# Altium footprint library final.PcbLib: 69 footprints (part 5 of 5)
Each footprint in its own frame and in the unit in brackets; x right, y up, seen from the top. Pads: shape width x height; smd on the part's side, far side on the other; paste and mask are expansions set on the pad; w line width, h text height; cw(c..) or ccw(c..) is an arc to the next point about the centre after c.
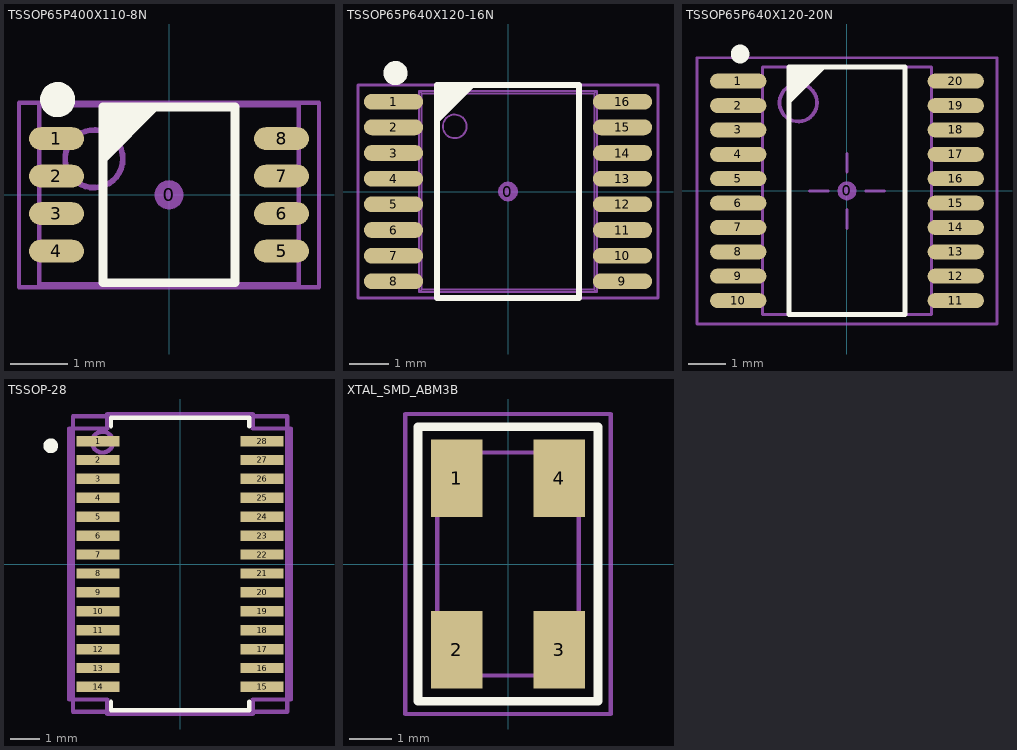
[diagram p4: the footprints below, top view; thin cyan lines are the x and y axes]

## TSSOP65P400X110-8N [mm] "TSSOP, 8 Leads, Body 3.1x3.1mm (max), lead span 4.0mm, Pitch 0.65mm, IPC Medium Density"
height 1.1
pads (9):
  round 0.508 on Mech14 mask+0.05: 0(0,0)
  oval 0.95x0.396 smd paste-0.051 mask+0.05: 1(-1.95,0.975) 2(-1.95,0.325) 3(-1.95,-0.325) 4(-1.95,-0.975) 5(1.95,-0.975) 6(1.95,-0.325) 7(1.95,0.325) 8(1.95,0.975)
Top Overlay:
  circle w0.305: c-1.93,1.651 r0.152
  region: -1.143,1.524 -0.143,1.524 -1.143,0.524
  lines w0.152: -1.143,-1.524 -1.143,1.524 1.143,1.524 1.143,-1.524 -1.143,-1.524
Top Solder:
  region: 2.3,1.016 1.6,1.016 1.6,-1.016 2.3,-1.016
  rectangle: -2.3,-1.016 -1.6,1.016
Mechanical 13:
  circle w0.1: c-1.3,0.625 r0.5
  lines w0.076: -2.25,-1.55 -2.25,1.55 2.25,1.55 2.25,-1.55 -2.25,-1.55
Mechanical 14:
  lines w0.076: -2.6,-1.6 -2.6,1.6 2.6,1.6 2.6,-1.6 -2.6,-1.6
3D body: height 1.09, standoff -0.01, extent -2.05,-1.55 2.05,1.55

## TSSOP65P640X120-16N [mm] "TSSOP, 16 Leads, Body 5.1x4.5mm (max), Pitch 0.65mm, IPC Medium Density"
height 1.2
pads (17):
  round 0.508 on Mech14: 0(0,0)
  oval 1.5x0.4 smd paste-0.051: 1(-2.9,2.275) 2(-2.9,1.625) 3(-2.9,0.975) 4(-2.9,0.325) 5(-2.9,-0.325) 6(-2.9,-0.975) 7(-2.9,-1.625) 8(-2.9,-2.275) 9(2.9,-2.275) 10(2.9,-1.625) 11(2.9,-0.975) 12(2.9,-0.325) 13(2.9,0.325) 14(2.9,0.975) 15(2.9,1.625) 16(2.9,2.275)
Top Overlay:
  circle w0.305: c-2.85,3 r0.152
  region: -1.8,2.7 -0.8,2.7 -1.8,1.7
  lines w0.152: -1.8,-2.7 -1.8,2.7 1.8,2.7 1.8,-2.7 -1.8,-2.7
Top Solder:
  rectangle: -3.5,-2.4 -2.3,2.4
  region: 3.5,2.4 2.3,2.4 2.3,-2.4 3.5,-2.4
Mechanical 13:
  circle w0.05: c-1.35,1.65 r0.3
  lines w0.05: -2.839,-2.425 -2.839,-2.125 ; -2.839,-1.775 -2.839,-1.475 ; -2.839,-1.125 -2.839,-0.825 ; -2.839,-0.475 -2.839,-0.175 ; -2.839,0.175 -2.839,0.475 ; -2.839,0.825 -2.839,1.125 ; -2.839,1.475 -2.839,1.775 ; -2.839,2.125 -2.839,2.425 ; -2.795,-2.425 -2.795,-2.125 ; -2.795,-1.775 -2.795,-1.475 ; -2.795,-1.125 -2.795,-0.825 ; -2.795,-0.475 -2.795,-0.175 ; -2.795,0.175 -2.795,0.475 ; -2.795,0.825 -2.795,1.125 ; -2.795,1.475 -2.795,1.775 ; -2.795,2.125 -2.795,2.425 ; -2.693,-2.425 -2.693,-2.125 ; -2.693,-1.775 -2.693,-1.475 ; -2.693,-1.125 -2.693,-0.825 ; -2.693,-0.475 -2.693,-0.175 ; -2.693,0.175 -2.693,0.475 ; -2.693,0.825 -2.693,1.125 ; -2.693,1.475 -2.693,1.775 ; -2.693,2.125 -2.693,2.425 ; -2.5,-2.425 -2.5,-2.125 ; -2.5,-1.775 -2.5,-1.475 ; -2.5,-1.125 -2.5,-0.825 ; -2.5,-0.475 -2.5,-0.175 ; -2.5,0.175 -2.5,0.475 ; -2.5,0.825 -2.5,1.125 ; -2.5,1.475 -2.5,1.775 ; -2.5,2.125 -2.5,2.425 ; -2.25,-2.425 -3.25,-2.425 -3.25,-2.125 -2.25,-2.125 ; -2.25,-1.775 -3.25,-1.775 -3.25,-1.475 -2.25,-1.475 ; -2.25,-1.125 -3.25,-1.125 -3.25,-0.825 -2.25,-0.825 ; -2.25,-0.475 -3.25,-0.475 -3.25,-0.175 -2.25,-0.175 ; -2.25,0.175 -3.25,0.175 -3.25,0.475 -2.25,0.475 ; -2.25,0.825 -3.25,0.825 -3.25,1.125 -2.25,1.125 ; -2.25,1.475 -3.25,1.475 -3.25,1.775 -2.25,1.775 ; -2.25,2.125 -3.25,2.125 -3.25,2.425 -2.25,2.425 ; 2.25,-2.425 3.25,-2.425 3.25,-2.125 2.25,-2.125 ; 2.25,-1.775 3.25,-1.775 3.25,-1.475 2.25,-1.475 ; 2.25,-1.125 3.25,-1.125 3.25,-0.825 2.25,-0.825 ; 2.25,-0.475 3.25,-0.475 3.25,-0.175 2.25,-0.175 ; 2.25,0.175 3.25,0.175 3.25,0.475 2.25,0.475 ; 2.25,0.825 3.25,0.825 3.25,1.125 2.25,1.125 ; 2.25,1.475 3.25,1.475 3.25,1.775 2.25,1.775 ; 2.25,2.125 3.25,2.125 3.25,2.425 2.25,2.425 ; 2.5,-2.425 2.5,-2.125 ; 2.5,-1.775 2.5,-1.475 ; 2.5,-1.125 2.5,-0.825 ; 2.5,-0.475 2.5,-0.175 ; 2.5,0.175 2.5,0.475 ; 2.5,0.825 2.5,1.125 ; 2.5,1.475 2.5,1.775 ; 2.5,2.125 2.5,2.425 ; 2.693,-2.425 2.693,-2.125 ; 2.693,-1.775 2.693,-1.475 ; 2.693,-1.125 2.693,-0.825 ; 2.693,-0.475 2.693,-0.175 ; 2.693,0.175 2.693,0.475 ; 2.693,0.825 2.693,1.125 ; 2.693,1.475 2.693,1.775 ; 2.693,2.125 2.693,2.425 ; 2.795,-2.425 2.795,-2.125 ; 2.795,-1.775 2.795,-1.475 ; 2.795,-1.125 2.795,-0.825 ; 2.795,-0.475 2.795,-0.175 ; 2.795,0.175 2.795,0.475 ; 2.795,0.825 2.795,1.125 ; 2.795,1.475 2.795,1.775 ; 2.795,2.125 2.795,2.425 ; 2.839,-2.425 2.839,-2.125 ; 2.839,-1.775 2.839,-1.475 ; 2.839,-1.125 2.839,-0.825 ; 2.839,-0.475 2.839,-0.175 ; 2.839,0.175 2.839,0.475 ; 2.839,0.825 2.839,1.125 ; 2.839,1.475 2.839,1.775 ; 2.839,2.125 2.839,2.425 ; -2.25,-2.55 -2.25,2.55 ; -2.25,-2.55 -2.187,-2.487 ; -2.25,-2.55 2.25,-2.55 ; -2.25,2.55 2.25,2.55 ; -2.25,2.55 -2.187,2.487 ; -2.187,-2.487 -2.187,2.487 ; -2.187,-2.487 2.187,-2.487 ; -2.187,2.487 2.187,2.487 ; 2.187,-2.487 2.187,2.487 ; 2.187,-2.487 2.25,-2.55 ; 2.187,2.487 2.25,2.55 ; 2.25,-2.55 2.25,2.55
Mechanical 14:
  lines w0.076: -3.8,-2.7 -3.8,2.7 3.8,2.7 3.8,-2.7 -3.8,-2.7
3D body: height 1.2, standoff 0, extent -3.25,-2.55 3.25,2.55

## TSSOP65P640X120-20N [mm] "TSSOP, 20-Leads, Body 6.6x4.5mm (max), Pitch 0.65mm, IPC Medium Density"
height 1.2
pads (21):
  round 0.508 on Mech14 mask+0.127: 0(0,0)
  oval 1.5x0.4 smd paste-1 mask+0.127: 1(-2.9,2.925) 2(-2.9,2.275) 3(-2.9,1.625) 4(-2.9,0.975) 5(-2.9,0.325) 6(-2.9,-0.325) 7(-2.9,-0.975) 8(-2.9,-1.625) 9(-2.9,-2.275) 10(-2.9,-2.925) 11(2.9,-2.925) 12(2.9,-2.275) 13(2.9,-1.625) 14(2.9,-0.975) 15(2.9,-0.325) 16(2.9,0.325) 17(2.9,0.975) 18(2.9,1.625) 19(2.9,2.275) 20(2.9,2.925)
Top Overlay:
  circle w0.25: c-2.85,3.65 r0.125
  region: -1.55,3.3 -0.55,3.3 -1.55,2.3
  lines w0.127: -1.55,-3.3 -1.55,3.3 1.55,3.3 1.55,-3.3 -1.55,-3.3
Top Paste:
  region: 3.5,-0.825 2.3,-0.825 2.3,-1.125 3.5,-1.125
  region: 3.5,-0.175 2.3,-0.175 2.3,-0.475 3.5,-0.475
  region: 3.5,0.475 2.3,0.475 2.3,0.175 3.5,0.175
  region: 3.5,1.125 2.3,1.125 2.3,0.825 3.5,0.825
  region: 3.5,1.775 2.3,1.775 2.3,1.475 3.5,1.475
  region: 3.5,2.425 2.3,2.425 2.3,2.125 3.5,2.125
  region: 3.5,3.075 2.3,3.075 2.3,2.775 3.5,2.775
  rectangle: -3.5,2.775 -2.3,3.075
  rectangle: -3.5,2.125 -2.3,2.425
  rectangle: -3.5,1.475 -2.3,1.775
  rectangle: -3.5,0.825 -2.3,1.125
  rectangle: -3.5,0.175 -2.3,0.475
  rectangle: -3.5,-0.475 -2.3,-0.175
  rectangle: -3.5,-1.125 -2.3,-0.825
  rectangle: -3.5,-3.075 -2.3,-2.775
  rectangle: -3.5,-2.425 -2.3,-2.125
  rectangle: -3.5,-1.775 -2.3,-1.475
  region: 3.5,-1.475 2.3,-1.475 2.3,-1.775 3.5,-1.775
  region: 3.5,-2.125 2.3,-2.125 2.3,-2.425 3.5,-2.425
  region: 3.5,-2.775 2.3,-2.775 2.3,-3.075 3.5,-3.075
Mechanical 13:
  circle w0.1: c-1.3,2.35 r0.5
  lines w0.076: -2.25,-3.3 -2.25,3.3 2.25,3.3 2.25,-3.3 -2.25,-3.3
Mechanical 14:
  lines w0.076: -1,0 -0.5,0 ; 0,-1 0,-0.5 ; 0,0.5 0,1 ; 0.5,0 1,0 ; -4,-3.55 -4,3.55 4,3.55 4,-3.55 -4,-3.55
3D body: height 1.2, standoff 0, extent -3.2,-3.25 3.2,3.25

## TSSOP-28 [mil]
pads (28):
  rect 58x14 smd mask+2.95: 1(-111,166.34) 2(-111,140.75) 3(-111,115.16) 4(-111,89.57) 5(-111,63.98) 6(-111,38.39) 7(-111,12.8) 8(-111,-12.8) 9(-111,-38.39) 10(-111,-63.98) 11(-111,-89.57) 12(-111,-115.16) 13(-111,-140.75) 14(-111,-166.34) 15(111,-166.34) 16(111,-140.75) 17(111,-115.16) 18(111,-89.57) 19(111,-63.98) 20(111,-38.39) 21(111,-12.8) 22(111,12.8) 23(111,38.39) 24(111,63.98) 25(111,89.57) 26(111,115.16) 27(111,140.75) 28(111,166.34)
Top Overlay:
  circle w10: c-175,160 r5
  lines w6: -93.5,-186.44 -93.5,-198 93.5,-198 93.5,-186.44 ; -93.5,186.44 -93.5,198 93.5,198 93.5,186.44
Mechanical 13:
  circle w5.91: c-105,165 r14.14
  lines w5.91: -145,-200 -145,200 145,200 145,-200 -145,-200
  text ".Designator" at -19.69,86.61 h59.06
Mechanical 15:
  lines w6: -150,-183.34 -150,183.34 -98.5,183.34 -98.5,203 98.5,203 98.5,183.34 150,183.34 150,-183.34 98.5,-183.34 98.5,-203 -98.5,-203 -98.5,-183.34 -150,-183.34
3D body: height 47.09, standoff 0, extent -125.98,-192.99 125.99,192.99

## XTAL_SMD_ABM3B [mm]
pads (4):
  rect 1.2x1.8 smd: 1(-1.2,2) 2(-1.2,-2) 3(1.2,-2) 4(1.2,2)
Top Overlay:
  lines w0.2: -0.2,3.2 2.1,3.2 2.1,-3.2 -2.1,-3.2 -2.1,3.2 0.2,3.2
Mechanical 13:
  lines w0.1: -1.65,-2.6 1.65,-2.6 1.65,2.6 -1.65,2.6 -1.65,-2.6
Mechanical 15:
  lines w0.1: -2.4,-3.5 2.4,-3.5 2.4,3.5 -2.4,3.5 -2.4,-3.5
3D body: height 1.11, standoff 0, extent -1.6,-2.5 1.6,2.5